# EAGLE library part TLC59208F (library FaBo-LED)
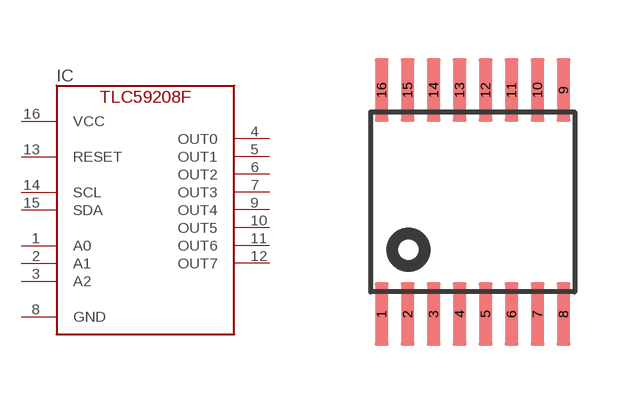
[diagram p5: symbol with the pads of TSSOP16; footprint TSSOP16]

Designator prefix IC

## TLC59208FIPWR  [TSSOP16]
1  A0
2  A1
3  A2
4  OUT0
5  OUT1
6  OUT2
7  OUT3
8  GND
9  OUT4
10  OUT5
11  OUT6
12  OUT7
13  RESET
14  SCL
15  SDA
16  VCC

## Footprint TSSOP16 (pad centres in mm)
smd 0.35 x 1.6: 1 -2.275,-2.8; 2 -1.625,-2.8; 3 -0.975,-2.8; 4 -0.325,-2.8; 5 0.325,-2.8; 6 0.975,-2.8; 7 1.625,-2.8; 8 2.275,-2.8; 9 2.275,2.8; 10 1.625,2.8; 11 0.975,2.8; 12 0.325,2.8; 13 -0.325,2.8; 14 -0.975,2.8; 15 -1.625,2.8; 16 -2.275,2.8